# Altium schematic symbol library Bootcamp_Schematic_Library.SchLib: 12 symbols
Pins are listed as number, name and electrical type; pins without a type are passive.

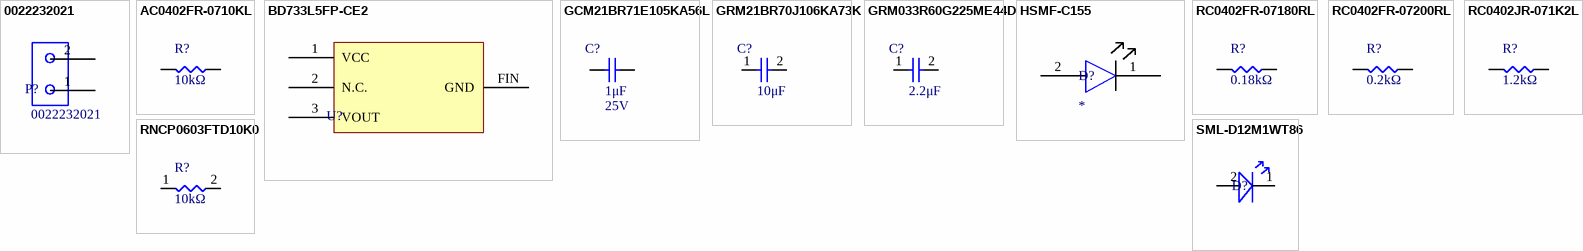
[diagram p0: symbols 0022232021 to SML-D12M1WT86]

## 0022232021
designator P?  Manufacturer Part Number 1: 0022232021
CONN HEADER VERT 2POS 2.54MM; Manufacturer 1: Molex; Supplier 1: Digi-Key; Supplier Part Number 1: 900-0022232021-ND; Mating Pitch: 2.54mm
footprint CON2.54mm
pins: 1, 2

## AC0402FR-0710KL
designator R?  value 10kΩ
RES SMD 10K OHM 1% 1/16W 0402; Manufacturer 1: YAGEO; Manufacturer Part Number 1: AC0402FR-0710KL; Supplier Part Number 1: YAG3436TR-ND; Supplier 1: Digi-Key; Power Rating: 1/16W
footprint RES0402 (1005 Metric)
pins: 1, 2

## BD733L5FP-CE2
designator U?
IC REG LINEAR 3.3V 500MA TO252-3; Manufacturer 1: *; Manufacturer Part Number 1: *; Supplier 1: *; Supplier Part Number 1: *
footprint TO-252-3, DPak (2 Leads + Tab), SC-63
pins: 1 VCC, 2 N.C., 3 VOUT, FIN GND

## GCM21BR71E105KA56L
designator C?  value 1μF  Voltage Rating: 25V
CAP CER 1UF 25V X7R 0805; Manufacturer 1: Murata; Manufacturer Part Number 1: GCM21BR71E105KA56L; Supplier 1: Digi-Key; Supplier Part Number 1: 490-4785-1-ND
footprint CAP0805 (Chip Capacitor, Body 2.0x1.2mm, Height 0.45mm, IPC Medium Density)
pins: 1, 2

## GRM21BR70J106KA73K
designator C?  value 10μF
CAP CER 10UF 6.3V X7R 0805; Manufacturer 1: Murata; Manufacturer Part Number 1: GRM21BR70J106KA73K; Supplier 1: Digi-Key; Supplier Part Number 1: 490-GRM21BR70J106KA73KTR-ND; Voltage Rating: 6.3V
footprint CAP0805 (2012 Metric)
pins: 1, 2

## GRM033R60G225ME44D
designator C?  value 2.2μF
CAP CER 2.2UF 4V X5R 0201; Manufacturer 1: Murata; Manufacturer Part Number 1: GRM033R60G225ME44D; Supplier 1: Digi-Key; Supplier Part Number 1: 490-13221-2-ND; Voltage Rating: 4V
footprint CAP0201 (0603 Metric)
pins: 1, 2

## HSMF-C155
designator D?
LED GREEN/RED DIFFUSED CHIP SMD; Manufacturer 1: Broadcom Limited; Manufacturer Part Number 1: HSMF-C155; Forward Voltage: 2.2V; Forward Current: 20mA; Supplier 1: Digi-Key; Supplier Part Number 1: 516-1456-2-ND
pins: 1, 2

## RC0402FR-07180RL
designator R?  value 0.18kΩ
RES 180 OHM 1% 1/16W 0402 /; Manufacturer 1: YAGEO; Manufacturer Part Number 1: RC0402FR-07180RL; Supplier Part Number 1: 311-180LRTR-ND; Supplier 1: Digi-Key; Power Rating: 1/16W
footprint RES0402 (1005 Metric)
pins: 1, 2

## RC0402FR-07200RL
designator R?  value 0.2kΩ
RES 200 OHM 1% 1/16W 0402 /; Manufacturer 1: YAGEO; Manufacturer Part Number 1: RC0402FR-07200RL; Supplier Part Number 1: 311-200LRTR-ND; Supplier 1: Digi-Key; Power Rating: 1/16W
footprint RES0402 (1005 Metric)
pins: 1, 2

## RC0402JR-071K2L
designator R?  value 1.2kΩ
RES 1.2K OHM 5% 1/16W 0402 /; Manufacturer 1: YAGEO; Manufacturer Part Number 1: RC0402JR-071K2L; Supplier Part Number 1: 311-1.2KJRTR-ND; Supplier 1: Digi-Key; Power Rating: 1/16W
footprint RES0402 (1005 Metric)
pins: 1, 2

## RNCP0603FTD10K0
designator R?  value 10kΩ
RES 10K OHM 1% 1/8W 0603; Manufacturer 1: Stackpole Electronics Inc; Manufacturer Part Number 1: RNCP0603FTD10K0; Supplier Part Number 1: RNCP0603FTD10K0CT-ND; Supplier 1: Digi-Key; Power Rating: 1/8W
footprint RES0603 (Chip Resistor, Body 1.6x0.8mm, IPC Medium Density)
pins: 1, 2

## SML-D12M1WT86
designator D?
LED YLW/GREEN DIFFUSED 1608 SMD; Manufacturer 1: Rohm Semiconductor; Manufacturer Part Number 1: SML-D12M1WT86; Forward Voltage: 2.2V; Forward Current: 20mA; Supplier 1: Digi-Key; Supplier Part Number 1: SML-D12M1WT86TR-ND
footprint LED0603Y
pins: 1, 2